# Altium schematic symbol library Swage.SchLib: 214 symbols (part 2 of 5)
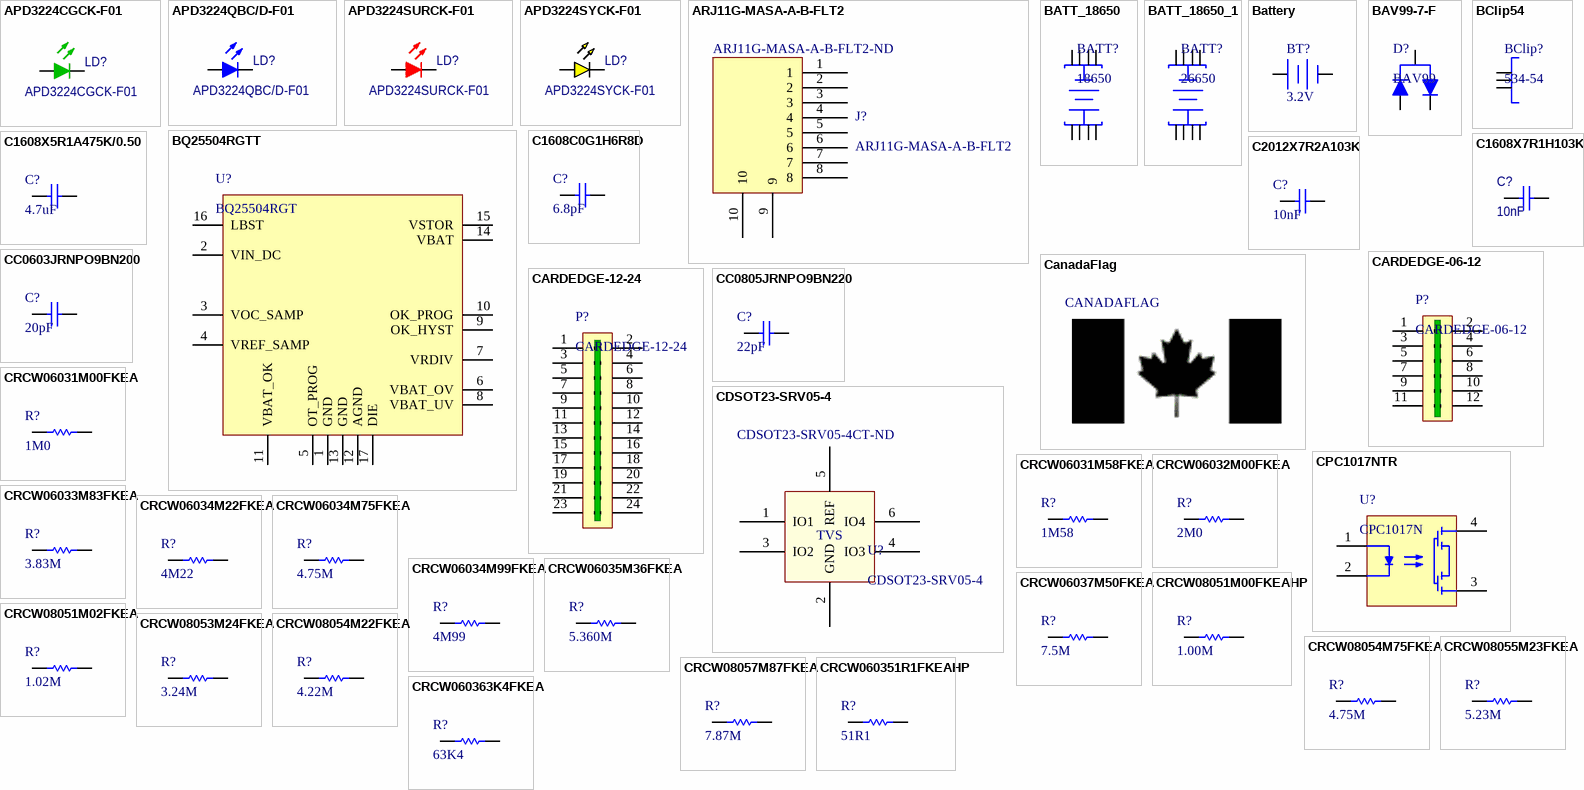
[diagram p6: symbols APD3224CGCK-F01 to CRCW060363K4FKEA]

## BClip54
designator BClip?, comment 534-54
KEYSTONE - 54 - BATTERY CLIP, 18MM CELL, PCB THRU HOLE; Battery Sizes Accepted: A; No. of Batteries: 1; Battery Terminals: Through Hole; For Use With: A Batteries; OPI_VID: xxxxx; Supplier 1: Newark; Manufacturer: KEYSTONE; Manufacturer Part Number: 534-54; RoHS: YES; Stock 1: 707; Pricing 1: 1=0.763, 100=0.565, 500=0.389, 1000=0.349, 2000=0.303, 5000=0.264 (USD); Accessory Type: Battery Clip; Terminal Type: Through Hole; ComponentLink1URL: http://www.keyelco.com/pdfs/54.pdf; ComponentLink1Description: http://www.keyelco.com/pdfs/54.pdf; Supplier Part Number 1: 25T0475
footprint BClip54 (Battery Clip, Keystone, 18650 sized Battery)
pins: 1, 2, 3

## BQ25504RGTT
designator U?, comment BQ25504RGT
IC ENERGY HARV CTRLR BATT 16QFN; Manufacturer: Texas Instruments; Manufacturer Part Number: BQ25504RGTT; Current - Supply: 330nA; Voltage - Supply: 2.5 V ~ 5.25 V; OPI_VID: 101347; Supplier 1: Digi-Key; RoHS: RoHS Compliant; Category: Integrated Circuits (ICs); Stock 1: 500; Pricing 1: 250=4.86028, 500=4.36108, 750=3.94073, 1250=3.67802, 2500=3.49412, 6250=3.36276, 12500=3.25768, 25000=3.15259 (CAD); Applications: Energy Harvesting; Operating Temperature: -40°C ~ 85°C; Mounting Type: Surface Mount; Package / Case: 16-VFQFN Exposed Pad; Supplier Device Package: 16-QFN-EP (3x3); Packaging: Tape & Reel (TR); ComponentLink1URL: http://www.ti.com/lit/ds/symlink/bq25504.pdf; ComponentLink1Description: http://www.ti.com/lit/ds/symlink/bq25504.pdf; Supplier Part Number 1: 296-29741-2-ND
footprint BQ25504 (QFN, 16-Leads, Body 3.2x3.2mm (max), Pitch 0.50mm, IPC Medium Density)
pins: 1 GND, 2 VIN_DC, 3 VOC_SAMP, 4 VREF_SAMP, 5 OT_PROG, 6 VBAT_OV, 7 VRDIV, 8 VBAT_UV, 9 OK_HYST, 10 OK_PROG, 11 VBAT_OK, 12 AGND, 13 GND, 14 VBAT, 15 VSTOR, 16 LBST, 17 DIE

## C1608C0G1H6R8D
designator C?, comment 6.8pF
CAP CER 6.8PF 50V NP0 0603; Manufacturer: TDK Corporation; Manufacturer Part Number: C1608C0G1H6R8D; Tolerance: ±0.5pF; Temperature Coefficient: C0G, NP0; OPI_VID: 101353; Supplier 1: Digi-Key; RoHS: RoHS Compliant; Category: Capacitors; Stock 1: 72000; Pricing 1: 4000=0.00863, 8000=0.00788, 12000=0.00751, 28000=0.00713, 100000=0.00516 (CAD); Capacitance: 6.8pF; Voltage - Rated: 50V; Mounting Type: Surface Mount, MLCC; Operating Temperature: -55°C ~ 125°C; Applications: General Purpose; Ratings: -; Package / Case: 0603 (1608 Metric); Size / Dimension: 0.063" L x 0.031" W (1.60mm x 0.80mm); Height - Seated (Max): -; Thickness (Max): 0.037" (0.95mm); Lead Spacing: -; Features: -; Packaging: Tape & Reel (TR); Lead Style: -; ComponentLink1URL: http://www.tdk.com/pdf/general_B11.pdf; ComponentLink1Description: http://www.tdk.com/pdf/general_B11.pdf; Supplier Part Number 1: 445-5039-2-ND
footprint RC0603 (Resistor, Capacitor, 0603)
pins: 1, 2

## C1608X5R1A475K/0.50
designator C?, comment 4.7uF
CAP CER 4.7UF 10V 10% X5R 0603; Manufacturer: TDK Corporation; Manufacturer Part Number: C1608X5R1A475K/0.50; Capacitance: 4.7µF; OPI_VID: 101354; Supplier 1: Digi-Key; RoHS: RoHS Compliant; Category: Capacitors; Stock 1: 44000; Pricing 1: 4000=0.04904, 8000=0.04639, 12000=0.044, 28000=0.04241, 100000=0.03512 (CAD); Voltage - Rated: 10V; Tolerance: ±10%; Temperature Coefficient: X5R; Mounting Type: Surface Mount, MLCC; Operating Temperature: -55°C ~ 85°C; Applications: General Purpose; Ratings: -; Package / Case: 0603 (1608 Metric); Size / Dimension: 0.063" L x 0.031" W (1.60mm x 0.80mm); Height - Seated (Max): -; Thickness (Max): 0.022" (0.55mm); Lead Spacing: -; Features: -; Packaging: Tape & Reel (TR); Lead Style: -; ComponentLink1URL: http://www.tdk.com/pdf/general_B11.pdf; ComponentLink1Description: http://www.tdk.com/pdf/general_B11.pdf; Supplier Part Number 1: 445-7482-2-ND
footprint RC0603 (Resistor, Capacitor, 0603)
pins: 1, 2

## C1608X7R1H103K
designator C?, comment 10nF
CAP CER 10000PF 50V 10% X7R 0603; Manufacturer: TDK Corporation; Manufacturer Part Number: C1608X7R1H103K; OPI_VID: 101017; Supplier 1: Digi-Key; Supplier Part Number 1: 445-1311-2-ND; RoHS: RoHS Compliant; Category: Capacitors; Stock 1: 292000; Pricing 1: 4000=0.00488, 8000=0.00445, 12000=0.00424, 28000=0.00403, 100000=0.00292 (CAD); Capacitance: 10000pF; Voltage - Rated: 50V; Tolerance: ±10%; Temperature Coefficient: X7R; Mounting Type: Surface Mount, MLCC; Operating Temperature: -55°C ~ 125°C; Applications: General Purpose; Ratings: -; Package / Case: 0603 (1608 Metric); Size / Dimension: 0.063" L x 0.031" W (1.60mm x 0.80mm); Height - Seated (Max): -; Thickness (Max): 0.037" (0.95mm); Lead Spacing: -; Features: -; Packaging: Tape & Reel (TR); Lead Style: -; ComponentLink1URL: http://www.tdk.com/pdf/general_B11.pdf; ComponentLink1Description: http://www.tdk.com/pdf/general_B11.pdf
footprint RC0603 (Resistor, Capacitor, 0603)
pins: 1, 2

## C2012X7R2A103K
designator C?, comment 10nF
CAP CER 10000PF 100V X7R 0805; Manufacturer: TDK Corporation; Manufacturer Part Number: C2012X7R2A103K; Tolerance: ±10%; OPI_VID: 101320; Supplier 1: Digi-Key; RoHS: RoHS Compliant; Category: Capacitors; Stock 1: 44000; Pricing 1: 4000=0.01844, 8000=0.01716, 12000=0.0163, 28000=0.01544, 100000=0.01169 (CAD); Capacitance: 10000pF; Voltage - Rated: 100V; Temperature Coefficient: X7R; Mounting Type: Surface Mount, MLCC; Operating Temperature: -55°C ~ 125°C; Applications: General Purpose; Ratings: -; Package / Case: 0805 (2012 Metric); Size / Dimension: 0.079" L x 0.049" W (2.00mm x 1.25mm); Height - Seated (Max): -; Thickness (Max): 0.037" (0.95mm); Lead Spacing: -; Features: -; Packaging: Tape & Reel (TR); Lead Style: -; ComponentLink1URL: http://www.tdk.com/pdf/mid_volt_B11.pdf; ComponentLink1Description: http://www.tdk.com/pdf/mid_volt_B11.pdf; Supplier Part Number 1: 445-1343-2-ND
footprint RC0805
pins: 1, 2

## CanadaFlag
designator CANADAFLAG, comment Canada Flag  (value not drawn)
footprint CanadaFlag500x250 (CanadaFlag, 500x250 mils)

## CARDEDGE-06-12
designator P?
CONN EDGECARD 6POS .100 FINGERS; Gender: Male; Number of Positions: 12; Pitch: 0.100" (2.54mm); Number of Rows: 2; Contact Finish: Gold; Contact Finish Thickness: 30µin (0.76µm)
footprint EdgeConnectorFingers (Connector, Edge, Fingers, 12 Pads, 2 Rows, 6 Contacts per row)
pins: 1  , 2  , 3  , 4  , 5  , 6  , 7  , 8  , 9  , 10  , 11  , 12  

## CARDEDGE-12-24
designator P?
CONN EDGECARD 2x12POS .100 FINGERS; Gender: Male; Number of Positions: 24; Pitch: 0.100" (2.54mm); Number of Rows: 2; Contact Finish: Gold; Contact Finish Thickness: 30µin (0.76µm)
footprint EdgeConnectorFingers24 (Connector, Edge, Fingers, 24 Pads, 2 Rows, 12 Contacts per row)
pins: 1  , 2  , 3  , 4  , 5  , 6  , 7  , 8  , 9  , 10  , 11  , 12  , 13  , 14  , 15  , 16  , 17  , 18  , 19  , 20  , 21  , 22  , 23  , 24  

## CC0603JRNPO9BN200
designator C?, comment 20pF
CAP CER 20PF 50V 5% NPO 0603; Manufacturer: Yageo; Manufacturer Part Number: CC0603JRNPO9BN200; Temperature Coefficient: C0G, NP0; OPI_VID: 101355; Supplier 1: Digi-Key; RoHS: RoHS Compliant; Category: Capacitors; Stock 1: 4000; Pricing 1: 4000=0.00619, 8000=0.00565, 12000=0.00538, 28000=0.00511, 100000=0.0037 (CAD); Capacitance: 20pF; Voltage - Rated: 50V; Tolerance: ±5%; Mounting Type: Surface Mount, MLCC; Operating Temperature: -55°C ~ 125°C; Applications: General Purpose; Ratings: -; Package / Case: 0603 (1608 Metric); Size / Dimension: 0.063" L x 0.031" W (1.60mm x 0.80mm); Height - Seated (Max): -; Thickness (Max): 0.035" (0.90mm); Lead Spacing: -; Features: -; Packaging: Tape & Reel (TR); Lead Style: -; ComponentLink1URL: http://www.yageo.com/documents/recent/UPY-GP_NP0_16V-to-50V_8.pdf; ComponentLink1Description: http://www.yageo.com/documents/recent/UPY-GP_NP0_16V-to-50V_8.pdf; Supplier Part Number 1: 311-1424-2-ND
footprint RC0603 (Resistor, Capacitor, 0603)
pins: 1, 2

## CC0805JRNPO9BN220
designator C?, comment 22pF
CAP CER 22PF 50V 5% NPO 0805; Manufacturer: Yageo; Manufacturer Part Number: CC0805JRNPO9BN220; Temperature Coefficient: C0G, NP0; OPI_VID: 100045; Supplier 1: Digi-Key; RoHS: RoHS Compliant; Category: Capacitors; Stock 1: 184000; Pricing 1: 4000=0.0128, 8000=0.01169, 12000=0.01113, 28000=0.01057, 100000=0.00765 (CAD); Capacitance: 22pF; Voltage - Rated: 50V; Tolerance: ±5%; Mounting Type: Surface Mount, MLCC; Operating Temperature: -55°C ~ 125°C; Applications: General Purpose; Ratings: -; Package / Case: 0805 (2012 Metric); Size / Dimension: 0.079" L x 0.049" W (2.00mm x 1.25mm); Height - Seated (Max): -; Thickness (Max): 0.024" (0.60mm); Lead Spacing: -; Features: -; Packaging: Tape & Reel (TR); Lead Style: -; ComponentLink1URL: http://www.yageo.com/documents/recent/UPY-GP_NP0_16V-to-50V_8.pdf; ComponentLink1Description: http://www.yageo.com/documents/recent/UPY-GP_NP0_16V-to-50V_8.pdf; Supplier Part Number 1: 311-1103-2-ND
footprint RC0805
pins: 1, 2

## CDSOT23-SRV05-4
designator U?  Supplier Part Number 1: CDSOT23-SRV05-4CT-ND
TVS DIODE 5VWM 15VC SOT23-6; Manufacturer: Bournes; OPI_VID: 101525; Supplier 1: Digi-Key; Supplier 2: Digi-Key; Supplier Part Number 2: CDSOT23-SRV05-4TR-ND; Manufacturer Part Number: CDSOT23-SRV05-4CT-ND
footprint SOT95P270X145-6N (SOT23, 6-Leads, Body 3.1x3.2mm (max), Pitch 0.95mm, IPC Medium Density)
pins: 1 IO1, 2 GND "TVS", 3 IO2, 4 IO3, 5 REF, 6 IO4
text: TVS

## CPC1017NTR
designator U?, comment CPC1017N
RELAY OPTOMOS SP-NO 100MA 4-SOP; Manufacturer: IXYS Integrated Circuits Division; Manufacturer Part Number: CPC1017NTR; Circuit: SPST-NO (1 Form A); Output Type: AC, DC; On-State Resistance: 16 Ohm; Voltage - Input: 1.2VDC; Voltage - Load: 0 ~ 60 V; OPI_VID: 101417; Supplier 1: Digi-Key; Supplier Part Number 1: CLA233TR-ND; RoHS: RoHS Compliant; Category: Relays; Stock 1: 22000; Pricing 1: 2000=0.46627, 6000=0.44296, 10000=0.42464, 50000=0.39966 (CAD); Load Current: 100mA; Mounting Type: Surface Mount; Termination Style: Gull Wing; Package / Case: 4-SOP (0.150", 3.81mm); Supplier Device Package: 4-SOP; Packaging: Tape & Reel (TR); Relay Type: Relay; ComponentLink1URL: http://www.clare.com/home/pdfs.nsf/www/CPC1017N.pdf/$file/CPC1017N.pdf; ComponentLink1Description: http://www.clare.com/home/pdfs.nsf/www/CPC1017N.pdf/$file/CPC1017N.pdf
footprint CPC1017N (Relay, SPST, NO, Optically Isolated)
pins: 1, 2, 3, 4

## CRCW06031M00FKEA
designator R?, comment 1M0
RES 1.00M OHM 1/10W 1% 0603 SMD; Manufacturer: Vishay Dale; Manufacturer Part Number: CRCW06031M00FKEA; Category 1: Resistors; Resistance (Ohms): 1M; Power (Watts): 0.1W, 1/10W; Temperature Coefficient: ±100ppm/°C; OPI_VID: 101550; Supplier 1: Digi-Key; Supplier Part Number 1: 541-1.00MHCT-ND; RoHS 1: RoHS Compliant; Description 1: RES 1.00M OHM 1/10W 1% 0603 SMD; Stock 1: 487863; Pricing 1: 10=0.103, 50=0.0554, 200=0.03185, 1000=0.02172 (CAD); Packaging: Cut Tape (CT); Tolerance: ±1%; Composition: Thick Film; Features: Automotive AEC-Q200 Qualified; Package / Case: 0603 (1608 Metric); Supplier Device Package: 0603 (1608 Metric); Size / Dimension: 0.061" L x 0.033" W (1.55mm x 0.85mm); Height: 0.020" (0.50mm); Number of Terminations: 2; ComponentLink1URL: http://www.vishay.com/doc?20035; ComponentLink1Description: http://www.vishay.com/doc?20035
footprint RC0603 (Resistor, Capacitor, 0603)
pins: 1, 2

## CRCW06031M58FKEA
designator R?, comment 1M58
RES 1.58M OHM 1/10W 1% 0603 SMD; Manufacturer: Vishay Dale; Manufacturer Part Number: CRCW06031M58FKEA; OPI_VID: 101379; Supplier 1: Digi-Key; Category: Resistors; Stock 1: 45000; Supplier Part Number 1: 541-1.58MHTR-ND
footprint RC0603 (Resistor, Capacitor, 0603)
pins: 1, 2

## CRCW06032M00FKEA
designator R?, comment 2M0
RES 2.00M OHM 1/10W 1% 0603 SMD; Manufacturer: Vishay Dale; Manufacturer Part Number: CRCW06032M00FKEA; Resistance (Ohms): 2M; Power (Watts): 0.1W, 1/10W; Temperature Coefficient: ±100ppm/°C; OPI_VID: 101448; Supplier 1: Digi-Key; RoHS: RoHS Compliant; Category: Resistors; Stock 1: 12600; Pricing 1: 10=0.096, 50=0.0516, 200=0.02965, 1000=0.02023 (CAD); Composition: Thick Film; Features: Automotive AEC-Q200 Qualified; Tolerance: ±1%; Package / Case: 0603 (1608 Metric); Supplier Device Package: 0603 (1608 Metric); Size / Dimension: 0.061" L x 0.033" W (1.55mm x 0.85mm); Height: 0.020" (0.50mm); Number of Terminations: 2; Packaging: Cut Tape (CT); ComponentLink1URL: http://www.vishay.com/doc?20035; ComponentLink1Description: http://www.vishay.com/doc?20035; Supplier Part Number 1: 541-2.00MHCT-ND
footprint RC0603 (Resistor, Capacitor, 0603)
pins: 1, 2

## CRCW06033M83FKEA
designator R?, comment 3.83M
RES 3.83M OHM 1/10W 1% 0603 SMD; Manufacturer: Vishay Dale; Manufacturer Part Number: CRCW06033M83FKEA; Power (Watts): 0.1W, 1/10W; Temperature Coefficient: ±100ppm/°C; OPI_VID: 101329; Supplier 1: Digi-Key; RoHS: RoHS Compliant; Category: Resistors; Stock 1: 10000; Pricing 1: 5000=0.00644, 10000=0.00579, 25000=0.00515, 50000=0.00429, 100000=0.00356, 250000=0.00322, 500000=0.0029 (CAD); Resistance (Ohms): 3.83M; Composition: Thick Film; Features: Automotive AEC-Q200 Qualified; Tolerance: ±1%; Package / Case: 0603 (1608 Metric); Size / Dimension: 0.061" L x 0.033" W (1.55mm x 0.85mm); Height: 0.020" (0.50mm); Number of Terminations: 2; Packaging: Tape & Reel (TR); ComponentLink1URL: http://www.vishay.com/doc?20035; ComponentLink1Description: http://www.vishay.com/doc?20035; Supplier Part Number 1: 541-3.83MHTR-ND
footprint RC0603 (Resistor, Capacitor, 0603)
pins: 1, 2

## CRCW06034M22FKEA
designator R?, comment 4M22
RES 4.22M OHM 1/10W 1% 0603 SMD; Manufacturer: Vishay Dale; Manufacturer Part Number: CRCW06034M22FKEA; Power (Watts): 0.1W, 1/10W; Temperature Coefficient: ±100ppm/°C; OPI_VID: 101450; Supplier 1: Digi-Key; RoHS: RoHS Compliant; Category: Resistors; Stock 1: 10000; Pricing 1: 5000=0.00674, 10000=0.00607, 25000=0.00539, 50000=0.00449, 100000=0.00373, 250000=0.00337, 500000=0.00303 (CAD); Resistance (Ohms): 4.22M; Composition: Thick Film; Features: Automotive AEC-Q200 Qualified; Tolerance: ±1%; Package / Case: 0603 (1608 Metric); Supplier Device Package: 0603 (1608 Metric); Size / Dimension: 0.061" L x 0.033" W (1.55mm x 0.85mm); Height: 0.020" (0.50mm); Number of Terminations: 2; Packaging: Tape & Reel (TR); ComponentLink1URL: http://www.vishay.com/doc?20035; ComponentLink1Description: http://www.vishay.com/doc?20035; Supplier Part Number 1: 541-4.22MHTR-ND
footprint RC0603 (Resistor, Capacitor, 0603)
pins: 1, 2

## CRCW06034M75FKEA
designator R?, comment 4.75M
RES 4.75M OHM 1/10W 1% 0603 SMD; Manufacturer: Vishay Dale; Manufacturer Part Number: CRCW06034M75FKEA; Power (Watts): 0.1W, 1/10W; Temperature Coefficient: ±100ppm/°C; OPI_VID: 101333; Supplier 1: Digi-Key; RoHS: RoHS Compliant; Category: Resistors; Stock 1: 30000; Pricing 1: 5000=0.00644, 10000=0.00579, 25000=0.00515, 50000=0.00429, 100000=0.00356, 250000=0.00322, 500000=0.0029 (CAD); Resistance (Ohms): 4.75M; Composition: Thick Film; Features: Automotive AEC-Q200 Qualified; Tolerance: ±1%; Package / Case: 0603 (1609 Metric); Size / Dimension: 0.061" L x 0.033" W (1.55mm x 0.85mm); Height: 0.020" (0.50mm); Number of Terminations: 2; Packaging: Tape & Reel (TR); ComponentLink1URL: http://www.vishay.com/doc?20035; ComponentLink1Description: http://www.vishay.com/doc?20035; Supplier Part Number 1: 541-4.75MHTR-ND
footprint rc0603 (Resistor, Capacitor, 0603)
pins: 1, 2

## CRCW06034M99FKEA
designator R?, comment 4M99
RES 4.99M OHM 1/10W 1% 0603 SMD; Manufacturer: Vishay Dale; Manufacturer Part Number: CRCW06034M99FKEA; Power (Watts): 0.1W, 1/10W; Temperature Coefficient: ±100ppm/°C; OPI_VID: 101381; Supplier 1: Digi-Key; RoHS: RoHS Compliant; Category: Resistors; Stock 1: 20000; Pricing 1: 5000=0.00652, 10000=0.00587, 25000=0.00521, 50000=0.00434, 100000=0.00361, 250000=0.00326, 500000=0.00293 (CAD); Resistance (Ohms): 4.99M; Composition: Thick Film; Features: Automotive AEC-Q200 Qualified; Tolerance: ±1%; Package / Case: 0603 (1608 Metric); Supplier Device Package: 0603 (1608 Metric); Size / Dimension: 0.061" L x 0.033" W (1.55mm x 0.85mm); Height: 0.020" (0.50mm); Number of Terminations: 2; Packaging: Tape & Reel (TR); ComponentLink1URL: http://www.vishay.com/doc?20035; ComponentLink1Description: http://www.vishay.com/doc?20035; Supplier Part Number 1: 541-4.99MHTR-ND
footprint rc0603 (Resistor, Capacitor, 0603)
pins: 1, 2

## CRCW06035M36FKEA
designator R?, comment 5.360M
Thick Film Resistors - SMD 1/10watt 5.36Mohms 1%; Manufacturer: Vishay/Dale; Manufacturer Part Number: CRCW06035M36FKEA; Power Rating: 100 mWatts; Temperature Coefficient: 100 PPM / K; Voltage Rating: 75 Volts; OPI_VID: 101334; Supplier 1: Mouser; RoHS: RoHS Compliant By Exemption; Category: Thick Film Resistors - SMD; Stock 1: 8155; Pricing 1: 1=0.086, 25=0.043, 100=0.027, 1000=0.016, 2000=0.014, 5000=0.006, 10000=0.005, 50000=0.004 (CAD); Dimensions: 0.85 mm W x 1.55 mm L x 0.45 mm H; Operating Temperature Range: - 55 C to + 155 C; Package / Case: 0603 (1608 metric); Packaging: Reel; Product: Thick Film Resistors SMD; Resistance: 5.36 MOhms; Series: CRCW; Termination Style: SMD/SMT; Tolerance: 1 %; Product Category: 0603 Thick Film Chip Resistors; Standard Pack Qty: 5000; RoHS - Mouser: E; Minimum Order Quantity: 1; Reeling: True; ComponentLink1URL: http://www.vishay.com/doc?20035; ComponentLink1Description: http://www.vishay.com/doc?20035; Supplier Part Number 1: 71-CRCW06035M36FKEA
footprint RC0603 (Resistor, Capacitor, 0603)
pins: 1, 2

## CRCW06037M50FKEA
designator R?, comment 7.5M
RES 7.50M OHM 1/10W 1% 0603 SMD; Manufacturer: Vishay Dale; Manufacturer Part Number: CRCW06037M50FKEA; Power (Watts): 0.1W, 1/10W; Temperature Coefficient: ±100ppm/°C; OPI_VID: 101331; Supplier 1: Digi-Key; RoHS: RoHS Compliant; Category: Resistors; Stock 1: 10000; Pricing 1: 5000=0.00644, 10000=0.00579, 25000=0.00515, 50000=0.00429, 100000=0.00356, 250000=0.00322, 500000=0.0029 (CAD); Resistance (Ohms): 7.5M; Composition: Thick Film; Features: Automotive AEC-Q200 Qualified; Tolerance: ±1%; Package / Case: 0603 (1608 Metric); Size / Dimension: 0.061" L x 0.033" W (1.55mm x 0.85mm); Height: 0.020" (0.50mm); Number of Terminations: 2; Packaging: Tape & Reel (TR); ComponentLink1URL: http://www.vishay.com/doc?20035; ComponentLink1Description: http://www.vishay.com/doc?20035; Supplier Part Number 1: 541-7.50MHTR-ND
footprint RC0603 (Resistor, Capacitor, 0603)
pins: 1, 2

## CRCW08051M00FKEAHP
designator R?, comment 1.00M
RES 1.00M OHM .33W 1% 0805 SMD; Manufacturer: Vishay Dale; Manufacturer Part Number: CRCW08051M00FKEAHP; Resistance (Ohms): 1M; Power (Watts): 0.333W, 1/3W; Temperature Coefficient: ±100ppm/°C; OPI_VID: 101332; Supplier 1: Digi-Key; RoHS: RoHS Compliant; Category: Resistors; Stock 1: 10000; Pricing 1: 5000=0.06052, 10000=0.05367, 25000=0.04796, 50000=0.03997, 100000=0.03311, 250000=0.02969, 500000=0.02741 (CAD); Composition: Thick Film; Features: Pulse Withstanding; Tolerance: ±1%; Package / Case: 0805 (2012 Metric); Size / Dimension: 0.079" L x 0.049" W (2.00mm x 1.25mm); Height: 0.024" (0.60mm); Number of Terminations: 2; Packaging: Tape & Reel (TR); ComponentLink1URL: http://www.vishay.com/docs/20043/crcwhpe3.pdf; ComponentLink1Description: http://www.vishay.com/docs/20043/crcwhpe3.pdf; Supplier Part Number 1: 541-1.00MTTR-ND
footprint RC0805
pins: 1, 2

## CRCW08051M02FKEA
designator R?, comment 1.02M
RES 1.02M OHM 1/8W 1% 0805 SMD; Manufacturer: Vishay Dale; Manufacturer Part Number: CRCW08051M02FKEA; Power (Watts): 0.125W, 1/8W; Temperature Coefficient: ±100ppm/°C; OPI_VID: 101330; Supplier 1: Digi-Key; RoHS: RoHS Compliant; Category: Resistors; Stock 1: 20000; Pricing 1: 5000=0.00914, 10000=0.00799, 25000=0.00685, 50000=0.00571, 100000=0.00457, 250000=0.00457, 500000=0.00343 (CAD); Resistance (Ohms): 1.02M; Composition: Thick Film; Features: -; Tolerance: ±1%; Package / Case: 0805 (2012 Metric); Size / Dimension: 0.079" L x 0.049" W (2.00mm x 1.25mm); Height: 0.020" (0.50mm); Number of Terminations: 2; Packaging: Tape & Reel (TR); ComponentLink1URL: http://www.vishay.com/doc?20035; ComponentLink1Description: http://www.vishay.com/doc?20035; Supplier Part Number 1: 541-1.02MCTR-ND
footprint RC0805
pins: 1, 2

## CRCW08053M24FKEA
designator R?, comment 3.24M
RES 3.24M OHM 1/8W 1% 0805 SMD; Manufacturer: Vishay Dale; Manufacturer Part Number: CRCW08053M24FKEA; Power (Watts): 0.125W, 1/8W; Temperature Coefficient: ±100ppm/°C; OPI_VID: 101328; Supplier 1: Digi-Key; RoHS: RoHS Compliant; Category: Resistors; Stock 1: 5000; Pricing 1: 5000=0.00914, 10000=0.00799, 25000=0.00685, 50000=0.00571, 100000=0.00457, 250000=0.00457, 500000=0.00343 (CAD); Resistance (Ohms): 3.24M; Composition: Thick Film; Features: -; Tolerance: ±1%; Package / Case: 0805 (2012 Metric); Size / Dimension: 0.079" L x 0.049" W (2.00mm x 1.25mm); Height: 0.020" (0.50mm); Number of Terminations: 2; Packaging: Tape & Reel (TR); ComponentLink1URL: http://www.vishay.com/doc?20035; ComponentLink1Description: http://www.vishay.com/doc?20035; Supplier Part Number 1: 541-3.24MCTR-ND
footprint RC0805
pins: 1, 2

## CRCW08054M22FKEA
designator R?, comment 4.22M
RES 4.22M OHM 1/8W 1% 0805 SMD; Manufacturer: Vishay Dale; Manufacturer Part Number: CRCW08054M22FKEA; Power (Watts): 0.125W, 1/8W; Temperature Coefficient: ±100ppm/°C; OPI_VID: xxxxx; Supplier 1: Digi-Key; RoHS: RoHS Compliant; Category: Resistors; Stock 1: 25000; Pricing 1: 5000=0.00914, 10000=0.00799, 25000=0.00685, 50000=0.00571, 100000=0.00457, 250000=0.00457, 500000=0.00343 (CAD); Resistance (Ohms): 4.22M; Composition: Thick Film; Features: -; Tolerance: ±1%; Package / Case: 0805 (2012 Metric); Size / Dimension: 0.079" L x 0.049" W (2.00mm x 1.25mm); Height: 0.020" (0.50mm); Number of Terminations: 2; Packaging: Tape & Reel (TR); ComponentLink1URL: http://www.vishay.com/doc?20035; ComponentLink1Description: http://www.vishay.com/doc?20035; Supplier Part Number 1: 541-4.22MCTR-ND
footprint RC0805
pins: 1, 2

## CRCW08054M75FKEA
designator R?, comment 4.75M
RES 4.75M OHM 1/8W 1% 0805 SMD; Manufacturer: Vishay Dale; Manufacturer Part Number: CRCW08054M75FKEA; Power (Watts): 0.125W, 1/8W; Temperature Coefficient: ±100ppm/°C; OPI_VID: xxxxx; Supplier 1: Digi-Key; RoHS: RoHS Compliant; Category: Resistors; Stock 1: 10000; Pricing 1: 5000=0.00914, 10000=0.00799, 25000=0.00685, 50000=0.00571, 100000=0.00457, 250000=0.00457, 500000=0.00343 (CAD); Resistance (Ohms): 4.75M; Composition: Thick Film; Features: -; Tolerance: ±1%; Package / Case: 0805 (2012 Metric); Size / Dimension: 0.079" L x 0.049" W (2.00mm x 1.25mm); Height: 0.020" (0.50mm); Number of Terminations: 2; Packaging: Tape & Reel (TR); ComponentLink1URL: http://www.vishay.com/doc?20035; ComponentLink1Description: http://www.vishay.com/doc?20035; Supplier Part Number 1: 541-4.75MCTR-ND
footprint RC0805
pins: 1, 2

## CRCW08055M23FKEA
designator R?, comment 5.23M
RES 5.23M OHM 1/8W 1% 0805 SMD; Manufacturer: Vishay Dale; Manufacturer Part Number: CRCW08055M23FKEA; Power (Watts): 0.125W, 1/8W; Temperature Coefficient: ±100ppm/°C; OPI_VID: xxxxx; Supplier 1: Digi-Key; RoHS: RoHS Compliant; Category: Resistors; Stock 1: 5000; Pricing 1: 5000=0.00914, 10000=0.00799, 25000=0.00685, 50000=0.00571, 100000=0.00457, 250000=0.00457, 500000=0.00343 (CAD); Resistance (Ohms): 5.23M; Composition: Thick Film; Features: -; Tolerance: ±1%; Package / Case: 0805 (2012 Metric); Size / Dimension: 0.079" L x 0.049" W (2.00mm x 1.25mm); Height: 0.020" (0.50mm); Number of Terminations: 2; Packaging: Tape & Reel (TR); ComponentLink1URL: http://www.vishay.com/doc?20035; ComponentLink1Description: http://www.vishay.com/doc?20035; Supplier Part Number 1: 541-5.23MCTR-ND
footprint RC0805
pins: 1, 2

## CRCW08057M87FKEA
designator R?, comment 7.87M
RES 7.87M OHM 1/8W 1% 0805 SMD; Manufacturer: Vishay Dale; Manufacturer Part Number: CRCW08057M87FKEA; Power (Watts): 0.125W, 1/8W; Temperature Coefficient: ±100ppm/°C; OPI_VID: xxxxx; Supplier 1: Digi-Key; RoHS: RoHS Compliant; Category: Resistors; Stock 1: 5000; Pricing 1: 5000=0.00914, 10000=0.00799, 25000=0.00685, 50000=0.00571, 100000=0.00457, 250000=0.00457, 500000=0.00343 (CAD); Resistance (Ohms): 7.87M; Composition: Thick Film; Features: -; Tolerance: ±1%; Package / Case: 0805 (2012 Metric); Size / Dimension: 0.079" L x 0.049" W (2.00mm x 1.25mm); Height: 0.020" (0.50mm); Number of Terminations: 2; Packaging: Tape & Reel (TR); ComponentLink1URL: http://www.vishay.com/doc?20035; ComponentLink1Description: http://www.vishay.com/doc?20035; Supplier Part Number 1: 541-7.87MCTR-ND
footprint RC0805
pins: 1, 2

## CRCW060351R1FKEAHP
designator R?, comment 51R1
RES 51.1 OHM .25W 1% 0603 SMD; Manufacturer: Vishay Dale; Manufacturer Part Number: CRCW060351R1FKEAHP; Resistance (Ohms): 51.1; Power (Watts): 0.25W, 1/4W; Temperature Coefficient: ±100ppm/°C; OPI_VID: 101449; Supplier 1: Digi-Key; RoHS: RoHS Compliant; Category: Resistors; Stock 1: 5000; Pricing 1: 5000=0.0351, 10000=0.03159, 25000=0.02808, 50000=0.0234, 100000=0.01942, 250000=0.01755, 500000=0.0158 (USD); Composition: Thick Film; Features: Automotive AEC-Q200 Qualified, Pulse Withstanding; Tolerance: ±1%; Package / Case: 0603 (1608 Metric); Supplier Device Package: 0603 (1608 Metric); Size / Dimension: 0.063" L x 0.033" W (1.60mm x 0.85mm); Height: 0.022" (0.55mm); Number of Terminations: 2; Packaging: Tape & Reel (TR); ComponentLink1URL: http://www.vishay.com/docs/20043/crcwhpe3.pdf; ComponentLink1Description: http://www.vishay.com/docs/20043/crcwhpe3.pdf; Supplier Part Number 1: 541-51.1STR-ND
footprint RC0603 (Resistor, Capacitor, 0603)
pins: 1, 2

## CRCW060363K4FKEA
designator R?, comment 63K4
RES 63.4KOHM 1/10W 1% 0603 SMD; Manufacturer: VISHAY DRALORIC; Manufacturer Part Number: CRCW060363K4FKEA; Description 1: VISHAY DRALORIC - CRCW060363K4FKEA - RESISTOR, 0603, 63K4, 1%; OPI_VID: 101526; Supplier 1: Farnell; Supplier Part Number 1: 2138479; RoHS 1: Y-EX; Stock 1: 3301; Pricing 1: 50=0.01, 250=0.008, 500=0.007, 1000=0.005 (GBP); ComponentLink1URL: http://www.farnell.com/datasheets/1697337.pdf; ComponentLink1Description: http://www.farnell.com/datasheets/1697337.pdf
footprint RC0603 (Resistor, Capacitor, 0603)
pins: 1, 2

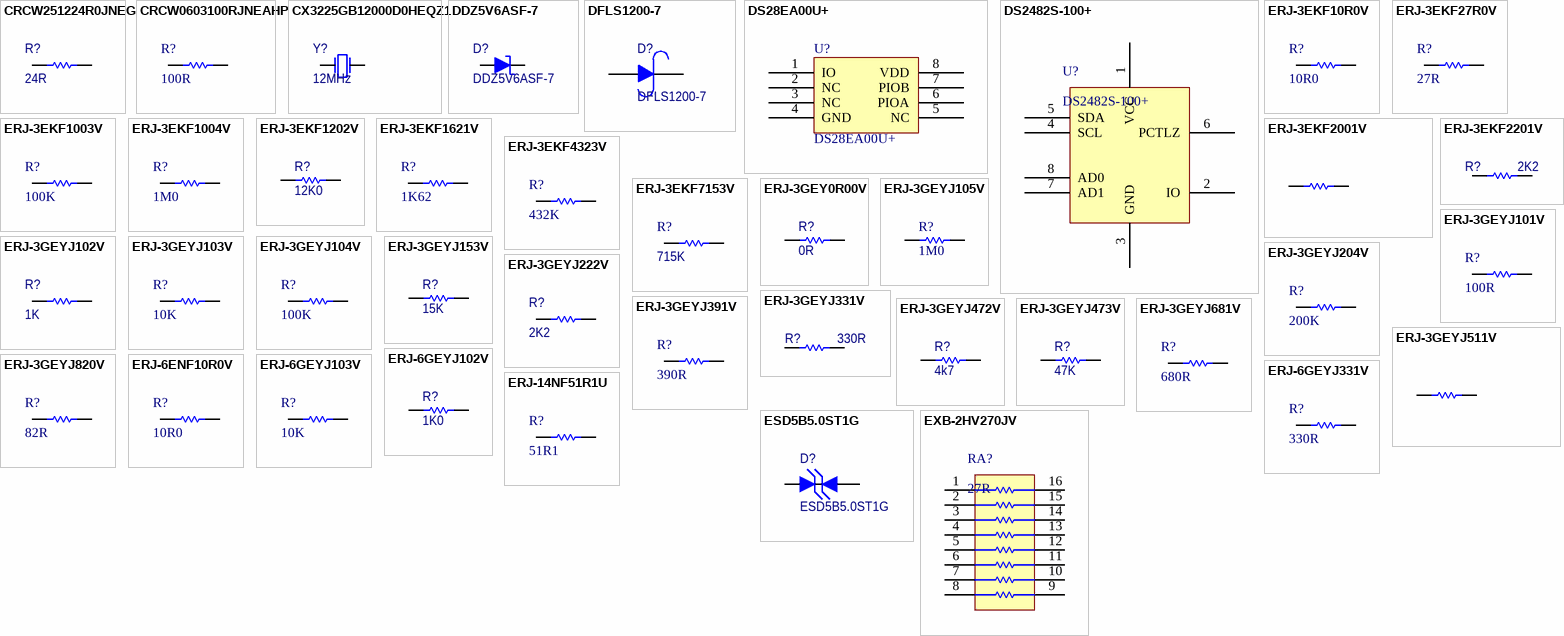
[diagram p2: symbols CRCW251224R0JNEG to EXB-2HV270JV]

## CRCW251224R0JNEG
designator R?, comment 24R
RES 24 OHM 1W 5% 2512 SMD; Manufacturer: Vishay / Dale; Supplier 1: Mouser; Supplier Part Number 1: 71-CRCW2512J-24-E3
footprint RES2512
pins: 1, 2

## CRCW0603100RJNEAHP
designator R?, comment 100R
RES 100 OHM .25W 5% 0603 SMD; Manufacturer: Vishay Dale; Manufacturer Part Number: CRCW0603100RJNEAHP; Resistance (Ohms): 100; Power (Watts): 0.25W, 1/4W; Temperature Coefficient: ±200ppm/°C; OPI_VID: 101470; Supplier 1: Digi-Key; RoHS: RoHS Compliant; Category: Resistors; Stock 1: 40000; Pricing 1: 5000=0.0321, 10000=0.02889, 25000=0.02568, 50000=0.0214, 100000=0.01776, 250000=0.01605, 500000=0.01445 (USD); Composition: Thick Film; Features: Automotive AEC-Q200 Qualified, Pulse Withstanding; Tolerance: ±5%; Package / Case: 0603 (1608 Metric); Supplier Device Package: 0603 (1608 Metric); Size / Dimension: 0.063" L x 0.033" W (1.60mm x 0.85mm); Height: 0.022" (0.55mm); Number of Terminations: 2; Packaging: Tape & Reel (TR); ComponentLink1URL: http://www.vishay.com/docs/20043/crcwhpe3.pdf; ComponentLink1Description: http://www.vishay.com/docs/20043/crcwhpe3.pdf; Supplier Part Number 1: 541-100SATR-ND
footprint RC0603 (Resistor, Capacitor, 0603)
pins: 1, 2

## CX3225GB12000D0HEQZ1
designator Y?, comment 12MHz
CRYSTAL 12.000MHZ 8PF SMD; Manufacturer: AVX Corporation; Manufacturer Part Number: CX3225GB12000D0HEQZ1; Frequency Stability: ±20ppm; Frequency Tolerance: ±30ppm; Operating Mode: Fundamental; OPI_VID: 101425; Supplier 1: Digi-Key; Supplier Part Number 1: 478-6620-2-ND; RoHS: RoHS Compliant; Category: Crystals and Oscillators; Stock 1: 3000; Pricing 1: 3000=0.40454, 6000=0.39009, 9000=0.37564, 12000=0.36898, 24000=0.3612, 48000=0.35786 (CAD); Type: MHz Crystal; Frequency: 12MHz; Load Capacitance: 8pF; Operating Temperature: -10°C ~ 70°C; Mounting Type: Surface Mount; Package / Case: 4-SMD, No Lead (DFN, LCC); Size / Dimension: 0.126" L x 0.098" W (3.20mm x 2.50mm); Height: 0.035" (0.90mm); Packaging: Tape & Reel (TR); ComponentLink1URL: http://global.kyocera.com/prdct/electro/pdf/xtal/cx3225gb_cs_e.pdf; ComponentLink1Description: http://global.kyocera.com/prdct/electro/pdf/xtal/cx3225gb_cs_e.pdf
footprint LCCS100P320X250X90-4N (LCC, 4-Pins, Body 3.3x2.6mm (max), Pitch 1.00mm, IPC Medium Density)
pins: 1, 3

## DDZ5V6ASF-7
designator D?
DIODE ZENER 5.42V 500MW SOD323F; Manufacturer: Diodes Inc; Voltage - Forward (Vf) (Max) @ If: 900mV @ 10mA; Current - Reverse Leakage @ Vr: 7.5µA @ 2V; Tolerance: ±2%; Impedance (Max) (Zzt): 80 Ohm; OPI_VID: 101383; Supplier 1: Digi-Key; Supplier Part Number 1: DDZ5V6ASF-7DITR-ND; Manufacturer Part Number: DDZ5V6ASF-7; RoHS: RoHS Compliant; Category: Discrete Semiconductor Products; Stock 1: 6000; Pricing 1: 3000=0.02937, 6000=0.02649, 15000=0.02304, 30000=0.02073, 75000=0.01843, 150000=0.01532 (CAD); Voltage - Zener (Nom) (Vz): 5.42V; Power - Max: 500mW; Mounting Type: Surface Mount; Package / Case: SC-90, SOD-323F; Supplier Device Package: SOD-323F; Packaging: Tape & Reel (TR); Operating Temperature: -65°C ~ 150°C; ComponentLink1URL: http://www.diodes.com/datasheets/ds31987.pdf; ComponentLink1Description: http://www.diodes.com/datasheets/ds31987.pdf
footprint SOD323F (SOD323F, 2-Leads, Body 1.4x1.8mm (max), Pitch 0.65mm, IPC Medium Density)
pins: 1, 2

## DFLS1200-7
designator D?
DIODE SCHOTTKY 1A 200V PWRDI 123; Manufacturer: Diodes Inc; Voltage - Forward (Vf) (Max) @ If: 850mV @ 1A; Speed: Fast Recovery =< 500ns, > 200mA (Io); Current - Reverse Leakage @ Vr: 2µA @ 200V; Capacitance @ Vr, F: 23pF @ 5V, 1MHz; OPI_VID: 101018; Supplier 1: Digi-Key; Supplier Part Number 1: DFLS1200DITR-ND; Manufacturer Part Number: DFLS1200-7; RoHS: RoHS Compliant; Category: Discrete Semiconductor Products; Stock 1: 21000; Pricing 1: 3000=0.22411, 6000=0.21017, 12000=0.19516, 27000=0.18444, 51000=0.18122 (CAD); Diode Type: Schottky; Voltage - DC Reverse (Vr) (Max): 200V; Current - Average Rectified (Io): 1A; Reverse Recovery Time (trr): -; Mounting Type: Surface Mount; Package / Case: 2-SMD, Flat Lead; Supplier Device Package: PowerDI™ 123; Packaging: Tape & Reel (TR); ComponentLink1URL: http://www.diodes.com/datasheets/ds30628.pdf; ComponentLink1Description: http://www.diodes.com/datasheets/ds30628.pdf
footprint POWERDI-123 (Molded Diode, DFLS1200, 2-Leads, Body 2.8x1.8mm, IPC Medium Density)
pins: 1 A, 2 K

## DS28EA00U+
designator U?
Board Mount Temperature Sensors 1-Wire Digital Therm w/Sequence Dtct-PIO; Supplier 1: Digi-Key; Supplier Part Number 1: DS28EA00U+T&R-ND
footprint UMAX8
pins: 1 IO, 2 NC, 3 NC, 4 GND, 5 NC, 6 PIOA, 7 PIOB, 8 VDD

## DS2482S-100+
designator U?
IC BRIDGE I2C TO 1-WIRE 8-SOIC; Manufacturer: Maxim Integrated; Controller Type: I²C Bus Controller; Interface: I²C; Voltage - Supply: 3.3V, 5V; Current - Supply: 750µA; OPI_VID: 101350; Supplier 1: Digi-Key; Manufacturer Part Number: DS2482S-100+; RoHS: RoHS Compliant; Category: Integrated Circuits (ICs); Stock 1: 830; Pricing 1: 1=1.79, 25=1.1904, 100=0.8686, 1000=0.77314 (CAD); Operating Temperature: -40°C ~ 85°C; Mounting Type: Surface Mount; Package / Case: 8-SOIC (0.154", 3.90mm Width); Supplier Device Package: 8-SOIC; Packaging: Tube; ComponentLink1URL: http://datasheets.maxim-ic.com/en/ds/DS2482-100.pdf; ComponentLink1Description: http://datasheets.maxim-ic.com/en/ds/DS2482-100.pdf; Supplier Part Number 1: DS2482S-100+-ND
footprint SOIC127P580X153-8N (SOIC, 8-Leads, Body 5.0x4.0mm (max), Pitch 1.27mm, IPC Medium Density)
pins: 1 VCC, 2 IO, 3 GND, 4 SCL, 5 SDA, 6 PCTLZ, 7 AD1, 8 AD0

## ERJ-3EKF10R0V
designator R?, comment 10R0
RES 10.0 OHM 1/10W 1% 0603 SMD; Manufacturer: Panasonic Electronic Components; Manufacturer Part Number: ERJ-3EKF10R0V; Resistance (Ohms): 10; Power (Watts): 0.1W, 1/10W; Temperature Coefficient: ±100ppm/°C; OPI_VID: 101339; Supplier 1: Digi-Key; RoHS: RoHS Compliant; Category: Resistors; Stock 1: 720000; Pricing 1: 5000=0.0026, 10000=0.00226, 25000=0.00199, 50000=0.00182, 125000=0.00179 (CAD); Composition: Thick Film; Features: -; Tolerance: ±1%; Package / Case: 0603 (1608 Metric); Size / Dimension: 0.063" L x 0.031" W (1.60mm x 0.80mm); Height: 0.022" (0.55mm); Number of Terminations: 2; Packaging: Tape & Reel (TR); ComponentLink1URL: http://industrial.panasonic.com/www-cgi/jvcr13pz.cgi?E+PZ+3+AOA0002+ERJ3EKF10R0V+7+WW; ComponentLink1Description: http://industrial.panasonic.com/www-cgi/jvcr13pz.cgi?E+PZ+3+AOA0002+ERJ3EKF10R0V+7+WW; Supplier Part Number 1: P10.0HTR-ND
footprint RC0603 (Resistor, Capacitor, 0603)
pins: 1, 2

## ERJ-3EKF27R0V
designator R?, comment 27R
RES 27.0 OHM 1/10W 1% 0603 SMD; Manufacturer: Panasonic Electronic Components; Manufacturer Part Number: ERJ-3EKF27R0V; Resistance (Ohms): 27; Power (Watts): 0.1W, 1/10W; Temperature Coefficient: ±100ppm/°C; OPI_VID: 101337; Supplier 1: Digi-Key; RoHS: RoHS Compliant; Category: Resistors; Stock 1: 230000; Pricing 1: 5000=0.0026, 10000=0.00226, 25000=0.00199, 50000=0.00182, 125000=0.00179 (CAD); Composition: Thick Film; Features: -; Tolerance: ±1%; Package / Case: 0603 (1608 Metric); Size / Dimension: 0.063" L x 0.031" W (1.60mm x 0.80mm); Height: 0.022" (0.55mm); Number of Terminations: 2; Packaging: Tape & Reel (TR); ComponentLink1URL: http://industrial.panasonic.com/www-cgi/jvcr13pz.cgi?E+PZ+3+AOA0002+ERJ3EKF27R0V+7+WW; ComponentLink1Description: http://industrial.panasonic.com/www-cgi/jvcr13pz.cgi?E+PZ+3+AOA0002+ERJ3EKF27R0V+7+WW; Supplier Part Number 1: P27.0HTR-ND
footprint RC0603 (Resistor, Capacitor, 0603)
pins: 1, 2

## ERJ-3EKF1003V
designator R?, comment 100K
RES 100K OHM 1/10W 5% 0603 SMD; Manufacturer: Panasonic Electronic Components; Manufacturer Part Number: ERJ-3EKF1003V; Power (Watts): 0.1W, 1/10W; Temperature Coefficient: ±200ppm/°C; OPI_VID: 101245; Supplier 1: Digi-Key; RoHS: RoHS Compliant; Category: Resistors; Stock 1: 3755000; Pricing 1: 5000=0.00172, 10000=0.00149, 25000=0.00131, 50000=0.0012, 125000=0.00118 (CAD); Resistance (Ohms): 100k; Composition: Thick Film; Features: -; Tolerance: ±5%; Package / Case: 0603 (1608 Metric); Size / Dimension: 0.063" L x 0.031" W (1.60mm x 0.80mm); Height: 0.022" (0.55mm); Number of Terminations: 2; Packaging: Tape & Reel (TR); ComponentLink1URL: http://industrial.panasonic.com/www-cgi/jvcr13pz.cgi?E+PZ+3+AOA0001+ERJ3GEYJ104V+7+WW; ComponentLink1Description: http://industrial.panasonic.com/www-cgi/jvcr13pz.cgi?E+PZ+3+AOA0001+ERJ3GEYJ104V+7+WW; Supplier Part Number 1: P100KGTR-ND; Supplier 2: Digi-Key; Supplier Part Number 2: P100KHTR-ND
footprint RC0603 (Resistor, Capacitor, 0603)
pins: 1, 2

## ERJ-3EKF1004V
designator R?, comment 1M0
RES 1.00M OHM 1/10W 1% 0603 SMD; Manufacturer: Panasonic Electronic Components; Manufacturer Part Number: ERJ-3EKF1004V; Resistance (Ohms): 1M; Power (Watts): 0.1W, 1/10W; Temperature Coefficient: ±100ppm/°C; OPI_VID: 101342; Supplier 1: Digi-Key; RoHS: RoHS Compliant; Category: Resistors; Stock 1: 1695000; Pricing 1: 5000=0.00257, 10000=0.00224, 25000=0.00196, 50000=0.0018, 125000=0.00177 (CAD); Composition: Thick Film; Features: -; Tolerance: ±1%; Package / Case: 0603 (1608 Metric); Size / Dimension: 0.063" L x 0.031" W (1.60mm x 0.80mm); Height: 0.022" (0.55mm); Number of Terminations: 2; Packaging: Tape & Reel (TR); ComponentLink1URL: http://industrial.panasonic.com/www-cgi/jvcr13pz.cgi?E+PZ+3+AOA0002+ERJ3EKF1004V+7+WW; ComponentLink1Description: http://industrial.panasonic.com/www-cgi/jvcr13pz.cgi?E+PZ+3+AOA0002+ERJ3EKF1004V+7+WW; Supplier Part Number 1: P1.00MHTR-ND
footprint rc0603 (Resistor, Capacitor, 0603)
pins: 1, 2

## ERJ-3EKF1202V
designator R?, comment 12K0
RES 12.0K OHM 1/10W 1% 0603 SMD; Manufacturer: Panasonic - ECG; Manufacturer Part Number: ERJ-3EKF1202V; Resistance (Ohms): 12K; Power (Watts): 0.1W, 1/10W; Temperature Coefficient: ±100ppm/°C; OPI_VID: 101420; Supplier 1: Digi-Key; Supplier Part Number 1: P12.0KHTR-ND; RoHS: RoHS Compliant; Category: Resistors; Stock 1: 350000; Pricing 1: 5000=0.00226, 10000=0.00226, 25000=0.00226 (CAD); Composition: Thick Film; Features: -; Tolerance: ±1%; Size / Dimension: 0.063" L x 0.031" W (1.60mm x 0.80mm); Height: 0.022" (0.55mm); Number of Terminations: 2; Packaging: Tape & Reel (TR); Package / Case: 0603 (1608 Metric); ComponentLink1URL: http://industrial.panasonic.com/www-cgi/jvcr13pz.cgi?E+PZ+3+AOA0002+ERJ3EKF1202V+7+WW; ComponentLink1Description: http://industrial.panasonic.com/www-cgi/jvcr13pz.cgi?E+PZ+3+AOA0002+ERJ3EKF1202V+7+WW
footprint RESC1608X06N (Chip Resistor, 2-Leads, Body 1.6x0.8mm, IPC Medium Density)
pins: 1, 2

## ERJ-3EKF1621V
designator R?, comment 1K62
RES 1.62K OHM 1/10W 1% 0603 SMD; Manufacturer: Panasonic Electronic Components; Manufacturer Part Number: ERJ-3EKF1621V; Power (Watts): 0.1W, 1/10W; Temperature Coefficient: ±100ppm/°C; OPI_VID: 101410; Supplier 1: Digi-Key; Supplier Part Number 1: P1.62KHTR-ND; RoHS: RoHS Compliant; Category: Resistors; Stock 1: 95000; Pricing 1: 5000=0.0027, 10000=0.00234, 25000=0.00206, 50000=0.00189, 125000=0.00185 (CAD); Resistance (Ohms): 1.62k; Composition: Thick Film; Features: -; Tolerance: ±1%; Package / Case: 0603 (1608 Metric); Supplier Device Package: 0603; Size / Dimension: 0.063" L x 0.031" W (1.60mm x 0.80mm); Height: 0.022" (0.55mm); Number of Terminations: 2; Packaging: Tape & Reel (TR); ComponentLink1URL: http://industrial.panasonic.com/www-cgi/jvcr13pz.cgi?E+PZ+3+AOA0002+ERJ3EKF1621V+7+WW; ComponentLink1Description: http://industrial.panasonic.com/www-cgi/jvcr13pz.cgi?E+PZ+3+AOA0002+ERJ3EKF1621V+7+WW
footprint RC0603 (Resistor, Capacitor, 0603)
pins: 1, 2

## ERJ-3EKF2001V
designator R?, comment 2K0
RES 2K OHM 1/10W 1% 0603 SMD; Manufacturer: Panasonic Electronic Components; Manufacturer Part Number: ERJ-3EKF2001V; Power (Watts): 0.1W, 1/10W; Temperature Coefficient: ±100ppm/°C; OPI_VID: 101487; Supplier 1: Digi-Key; Supplier Part Number 1: P2.00KHTR-ND; RoHS: RoHS Compliant; Category: Resistors; Stock 1: 1000000; Pricing 1: 5000=0.00272, 10000=0.00236, 25000=0.00207, 50000=0.0019, 125000=0.00186 (CAD); Packaging: Tape & Reel (TR); Resistance (Ohms): 2k; Composition: Thick Film; Features: -; Tolerance: ±1%; Package / Case: 0603 (1608 Metric); Supplier Device Package: 0603; Size / Dimension: 0.063" L x 0.031" W (1.60mm x 0.80mm); Height: 0.022" (0.55mm); Number of Terminations: 2; ComponentLink1URL: http://industrial.panasonic.com/www-cgi/jvcr13pz.cgi?E+PZ+3+AOA0002+ERJ3EKF2001V+7+WW; ComponentLink1Description: http://industrial.panasonic.com/www-cgi/jvcr13pz.cgi?E+PZ+3+AOA0002+ERJ3EKF2001V+7+WW
footprint RC0603 (Resistor, Capacitor, 0603)
pins: 1, 2

## ERJ-3EKF2201V
designator R?, comment 2K2
RES 2.20K OHM 1/10W 1% 0603 SMD; Manufacturer: Panasonic - ECG; Manufacturer Part Number: ERJ-3EKF2201V; Resistance (Ohms): 2.2K; Power (Watts): 0.1W, 1/10W; Temperature Coefficient: ±100ppm/°C; OPI_VID: xxxxx; Supplier 1: Digi-Key; Supplier Part Number 1: P2.20KHTR-ND; RoHS: RoHS Compliant; Category: Resistors; Stock 1: 680000; Pricing 1: 5000=0.00226, 10000=0.00226, 25000=0.00226 (CAD); Composition: Thick Film; Features: -; Tolerance: ±1%; Size / Dimension: 0.063" L x 0.031" W (1.60mm x 0.80mm); Height: 0.022" (0.55mm); Number of Terminations: 2; Packaging: Tape & Reel (TR); Package / Case: 0603 (1608 Metric); ComponentLink1URL: http://industrial.panasonic.com/www-cgi/jvcr13pz.cgi?E+PZ+3+AOA0002+ERJ3EKF2201V+7+WW; ComponentLink1Description: http://industrial.panasonic.com/www-cgi/jvcr13pz.cgi?E+PZ+3+AOA0002+ERJ3EKF2201V+7+WW
footprint RC0603 (Resistor, Capacitor, 0603)
pins: 1, 2

## ERJ-3EKF4323V
designator R?, comment 432K
RES 432K OHM 1/10W 1% 0603 SMD; Manufacturer: Panasonic Electronic Components; Manufacturer Part Number: ERJ-3EKF4323V; Power (Watts): 0.1W, 1/10W; Temperature Coefficient: ±100ppm/°C; OPI_VID: 101344; Supplier 1: Digi-Key; RoHS: RoHS Compliant; Category: Resistors; Stock 1: 75000; Pricing 1: 5000=0.00257, 10000=0.00224, 25000=0.00196, 50000=0.0018, 125000=0.00177 (CAD); Resistance (Ohms): 432k; Composition: Thick Film; Features: -; Tolerance: ±1%; Package / Case: 0603 (1608 Metric); Size / Dimension: 0.063" L x 0.031" W (1.60mm x 0.80mm); Height: 0.022" (0.55mm); Number of Terminations: 2; Packaging: Tape & Reel (TR); ComponentLink1URL: http://industrial.panasonic.com/www-cgi/jvcr13pz.cgi?E+PZ+3+AOA0002+ERJ3EKF4323V+7+WW; ComponentLink1Description: http://industrial.panasonic.com/www-cgi/jvcr13pz.cgi?E+PZ+3+AOA0002+ERJ3EKF4323V+7+WW; Supplier Part Number 1: P432KHTR-ND
footprint RC0603 (Resistor, Capacitor, 0603)
pins: 1, 2

## ERJ-3EKF7153V
designator R?, comment 715K
RES 715K OHM 1/10W 1% 0603 SMD; Manufacturer: Panasonic Electronic Components; Manufacturer Part Number: ERJ-3EKF7153V; Power (Watts): 0.1W, 1/10W; Temperature Coefficient: ±100ppm/°C; OPI_VID: 101343; Supplier 1: Digi-Key; RoHS: RoHS Compliant; Category: Resistors; Stock 1: 210000; Pricing 1: 5000=0.00257, 10000=0.00224, 25000=0.00196, 50000=0.0018, 125000=0.00177 (CAD); Composition: Thick Film; Features: -; Tolerance: ±1%; Package / Case: 0603 (1608 Metric); Size / Dimension: 0.063" L x 0.031" W (1.60mm x 0.80mm); Height: 0.022" (0.55mm); Number of Terminations: 2; Packaging: Tape & Reel (TR); ComponentLink1URL: http://industrial.panasonic.com/www-cgi/jvcr13pz.cgi?E+PZ+3+AOA0002+ERJ3EKF7153V+7+WW; ComponentLink1Description: http://industrial.panasonic.com/www-cgi/jvcr13pz.cgi?E+PZ+3+AOA0002+ERJ3EKF7153V+7+WW; Supplier Part Number 1: P715KHTR-ND; Resistance (Ohms): 715k
footprint RC0603 (Resistor, Capacitor, 0603)
pins: 1, 2

## ERJ-3GEY0R00V
designator R?, comment 0R
RES 0.0 OHM 1/10W 0603 SMD; Manufacturer: Panasonic - ECG; Manufacturer Part Number: ERJ-3GEY0R00V; Category 1: Resistors; Resistance (Ohms): 0.0; Power (Watts): 0.1W, 1/10W; Temperature Coefficient: -100/ +600ppm/°C; Tolerance: Jumper; OPI_VID: 101042; Supplier 1: Digi-Key; Supplier Part Number 1: P0.0GTR-ND; RoHS 1: RoHS Compliant; Description 1: RES 0.0 OHM 1/10W 0603 SMD; Stock 1: 25505000; Pricing 1: 5000=0.00171, 10000=0.00149, 25000=0.00131 (USD); Composition: Thick Film; Features: -; Size / Dimension: 0.063" L x 0.031" W (1.60mm x 0.80mm); Height: 0.018" (0.45mm); Lead Style: Surface Mount (SMD - SMT); Packaging: Tape & Reel (TR); Package / Case: 0603 (1608 Metric); ComponentLink1URL: http://industrial.panasonic.com/www-cgi/jvcr13pz.cgi?E+PZ+3+AOA0001+ERJ3GEY0R00V+7+WW; ComponentLink1Description: http://industrial.panasonic.com/www-cgi/jvcr13pz.cgi?E+PZ+3+AOA0001+ERJ3GEY0R00V+7+WW
footprint RC0603 (Resistor, Capacitor, 0603)
footprint RC0603 (Resistor, Capacitor, 0603)
pins: 1, 2

## ERJ-3GEYJ101V
designator R?, comment 100R
RES 100 OHM 1/10W 5% 0603 SMD; Manufacturer: Panasonic Electronic Components; Manufacturer Part Number: ERJ-3GEYJ101V; OPI_VID: 101402; Category 1: Resistors; Resistance (Ohms): 100; Power (Watts): 0.1W, 1/10W; Temperature Coefficient: ±200ppm/°C; Supplier 1: Digi-Key; Supplier Part Number 1: P100GCT-ND; RoHS 1: RoHS Compliant; Description 1: RES 100 OHM 1/10W 5% 0603 SMD; Stock 1: 1062394; Pricing 1: 1=0.13, 50=0.016, 100=0.0122, 250=0.00908, 500=0.0067, 1000=0.00447, 2500=0.00378 (CAD); Packaging: Cut Tape (CT); Tolerance: ±5%; Composition: Thick Film; Features: -; Package / Case: 0603 (1608 Metric); Supplier Device Package: 0603; Size / Dimension: 0.063" L x 0.031" W (1.60mm x 0.80mm); Height: 0.022" (0.55mm); Number of Terminations: 2; ComponentLink1URL: http://industrial.panasonic.com/www-cgi/jvcr13pz.cgi?E+PZ+3+AOA0001+ERJ3GEYJ101V+7+WW; ComponentLink1Description: http://industrial.panasonic.com/www-cgi/jvcr13pz.cgi?E+PZ+3+AOA0001+ERJ3GEYJ101V+7+WW
footprint RC0603 (Resistor, Capacitor, 0603)
pins: 1, 2

## ERJ-3GEYJ102V
designator R?, comment 1K
RES 1.0K OHM 1/10W 5% 0603 SMD; Manufacturer: Panasonic Electronic Components; Manufacturer Part Number: ERJ-3GEYJ102V; Power (Watts): 0.1W, 1/10W; Temperature Coefficient: ±200ppm/°C; OPI_VID: 101077; Supplier 1: Digi-Key; Supplier Part Number 1: P1.0KGTR-ND; RoHS: RoHS Compliant; Category: Resistors; Stock 1: 14380000; Pricing 1: 5000=0.00172, 10000=0.00149, 25000=0.00131, 50000=0.0012, 125000=0.00118 (CAD); Resistance (Ohms): 1k; Composition: Thick Film; Features: -; Tolerance: ±5%; Package / Case: 0603 (1608 Metric); Size / Dimension: 0.063" L x 0.031" W (1.60mm x 0.80mm); Height: 0.022" (0.55mm); Number of Terminations: 2; Packaging: Tape & Reel (TR); ComponentLink1URL: http://industrial.panasonic.com/www-cgi/jvcr13pz.cgi?E+PZ+3+AOA0001+ERJ3GEYJ102V+7+WW; ComponentLink1Description: http://industrial.panasonic.com/www-cgi/jvcr13pz.cgi?E+PZ+3+AOA0001+ERJ3GEYJ102V+7+WW
footprint rc0603 (Resistor, Capacitor, 0603)
pins: 1, 2

## ERJ-3GEYJ103V
designator R?, comment 10K
RES 10K OHM 1/10W 5% 0603 SMD; Manufacturer: Panasonic Electronic Components; Manufacturer Part Number: ERJ-3GEYJ103V; Power (Watts): 0.1W, 1/10W; Temperature Coefficient: ±200ppm/°C; OPI_VID: 101044; Supplier 1: Digi-Key; RoHS: RoHS Compliant; Category: Resistors; Stock 1: 13440000; Pricing 1: 5000=0.00174, 10000=0.00151, 25000=0.00132, 50000=0.00122, 125000=0.00119 (CAD); Resistance (Ohms): 10k; Composition: Thick Film; Features: -; Tolerance: ±5%; Package / Case: 0603 (1608 Metric); Size / Dimension: 0.063" L x 0.031" W (1.60mm x 0.80mm); Height: 0.022" (0.55mm); Number of Terminations: 2; Packaging: Tape & Reel (TR); ComponentLink1URL: http://industrial.panasonic.com/www-cgi/jvcr13pz.cgi?E+PZ+3+AOA0001+ERJ3GEYJ103V+7+WW; ComponentLink1Description: http://industrial.panasonic.com/www-cgi/jvcr13pz.cgi?E+PZ+3+AOA0001+ERJ3GEYJ103V+7+WW; Supplier Part Number 1: P10KGTR-ND
footprint RC0603 (Resistor, Capacitor, 0603)
pins: 1, 2

## ERJ-3GEYJ104V
designator R?, comment 100K
RES 100K OHM 1/10W 5% 0603 SMD; Manufacturer: Panasonic Electronic Components; Manufacturer Part Number: ERJ-3GEYJ104V; Power (Watts): 0.1W, 1/10W; Temperature Coefficient: ±200ppm/°C; OPI_VID: 101335; Supplier 1: Digi-Key; RoHS: RoHS Compliant; Category: Resistors; Stock 1: 3755000; Pricing 1: 5000=0.00172, 10000=0.00149, 25000=0.00131, 50000=0.0012, 125000=0.00118 (CAD); Resistance (Ohms): 100k; Composition: Thick Film; Features: -; Tolerance: ±5%; Package / Case: 0603 (1608 Metric); Size / Dimension: 0.063" L x 0.031" W (1.60mm x 0.80mm); Height: 0.022" (0.55mm); Number of Terminations: 2; Packaging: Tape & Reel (TR); ComponentLink1URL: http://industrial.panasonic.com/www-cgi/jvcr13pz.cgi?E+PZ+3+AOA0001+ERJ3GEYJ104V+7+WW; ComponentLink1Description: http://industrial.panasonic.com/www-cgi/jvcr13pz.cgi?E+PZ+3+AOA0001+ERJ3GEYJ104V+7+WW; Supplier Part Number 1: P100KGTR-ND
footprint RC0603 (Resistor, Capacitor, 0603)
pins: 1, 2

## ERJ-3GEYJ105V
designator R?, comment 1M0
RES 1.0M OHM 1/10W 5% 0603 SMD; Manufacturer: Panasonic - ECG; Manufacturer Part Number: ERJ-3GEYJ105V; Category 1: Resistors; Resistance (Ohms): 1M; Power (Watts): 0.1W, 1/10W; Temperature Coefficient: ±200ppm/°C; OPI_VID: 101039; Supplier 1: Digi-Key; Supplier Part Number 1: P1.0MGDKR-ND; RoHS 1: RoHS Compliant; Description 1: RES 1.0M OHM 1/10W 5% 0603 SMD; Stock 1: 2202551; Pricing 1: 1=0.03, 50=0.0104, 100=0.0079, 250=0.00584, 500=0.00432, 1000=0.00288 (USD); Composition: Thick Film; Features: -; Tolerance: ±5%; Size / Dimension: 0.063" L x 0.031" W (1.60mm x 0.80mm); Height: 0.018" (0.45mm); Number of Terminations: 2; Packaging: Digi-Reel®; Package / Case: 0603 (1608 Metric); ComponentLink1URL: http://industrial.panasonic.com/www-cgi/jvcr13pz.cgi?E+PZ+3+AOA0001+ERJ3GEYJ105V+7+WW; ComponentLink1Description: http://industrial.panasonic.com/www-cgi/jvcr13pz.cgi?E+PZ+3+AOA0001+ERJ3GEYJ105V+7+WW
footprint RESC1608X06N (Chip Resistor, 2-Leads, Body 1.6x0.8mm, IPC Medium Density)
pins: 1, 2

## ERJ-3GEYJ153V
designator R?, comment 15K
RES 15K OHM 1/10W 5% 0603 SMD; Manufacturer: Panasonic - ECG; Manufacturer Part Number: ERJ-3GEYJ153V; Power (Watts): 0.1W, 1/10W; Temperature Coefficient: ±200ppm/°C; OPI_VID: xxxxx; Supplier 1: Digi-Key; Supplier Part Number 1: P15KGTR-ND; RoHS: RoHS Compliant; Category: Resistors; Stock 1: 2450000; Pricing 1: 5000=0.00172, 10000=0.00149, 25000=0.00131 (CAD); Resistance (Ohms): 15K; Composition: Thick Film; Features: -; Tolerance: ±5%; Size / Dimension: 0.063" L x 0.031" W (1.60mm x 0.80mm); Height: 0.022" (0.55mm); Number of Terminations: 2; Packaging: Tape & Reel (TR); Package / Case: 0603 (1608 Metric); ComponentLink1URL: http://industrial.panasonic.com/www-cgi/jvcr13pz.cgi?E+PZ+3+AOA0001+ERJ3GEYJ153V+7+WW; ComponentLink1Description: http://industrial.panasonic.com/www-cgi/jvcr13pz.cgi?E+PZ+3+AOA0001+ERJ3GEYJ153V+7+WW
footprint RESC1608X06N (Chip Resistor, 2-Leads, Body 1.6x0.8mm, IPC Medium Density)
pins: 1, 2

## ERJ-3GEYJ204V
designator R?, comment 200K
RES 200K OHM 1/10W 5% 0603 SMD; Manufacturer: Panasonic Electronic Components; Manufacturer Part Number: ERJ-3GEYJ204V; Resistance (Ohms): 100k; Power (Watts): 0.1W, 1/10W; Temperature Coefficient: ±200ppm/°C; OPI_VID: 101538; Supplier 1: Digi-Key; RoHS: RoHS Compliant; Category: Resistors; Stock 1: 3755000; Pricing 1: 5000=0.00172, 10000=0.00149, 25000=0.00131, 50000=0.0012, 125000=0.00118 (CAD); Composition: Thick Film; Features: -; Tolerance: ±5%; Package / Case: 0603 (1608 Metric); Size / Dimension: 0.063" L x 0.031" W (1.60mm x 0.80mm); Height: 0.022" (0.55mm); Number of Terminations: 2; Packaging: Tape & Reel (TR); ComponentLink1URL: http://industrial.panasonic.com/www-cgi/jvcr13pz.cgi?E+PZ+3+AOA0001+ERJ3GEYJ104V+7+WW; ComponentLink1Description: http://industrial.panasonic.com/www-cgi/jvcr13pz.cgi?E+PZ+3+AOA0001+ERJ3GEYJ104V+7+WW; Supplier Part Number 1: P100KGTR-ND
footprint RC0603 (Resistor, Capacitor, 0603)
pins: 1, 2